# Altium integrated library 串口.IntLib: 3 symbols
Pins are listed as number, name and electrical type; pins without a type are passive.

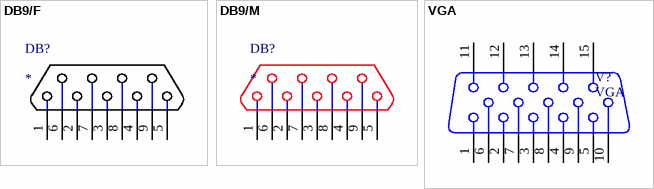
[diagram p0: symbols DB9/F to VGA]

## DB9/F
designator DB?
footprint DB9/F/180
footprint DB9/F/90
pins: 1, 2, 3, 4, 5, 6, 7, 8, 9

## DB9/M
designator DB?
footprint DB9/M/90
footprint DB9/M/180
pins: 1, 2, 3, 4, 5, 6, 7, 8, 9

## VGA
designator V?
footprint VGA15/F/90
pins: 1, 2, 3, 4, 5, 6, 7, 8, 9, 10, 11, 12, 13, 14, 15